# Altium schematic symbol library Connector-CardSocket.SchLib: 5 symbols
Pins are listed as number, name and electrical type; pins without a type are passive.

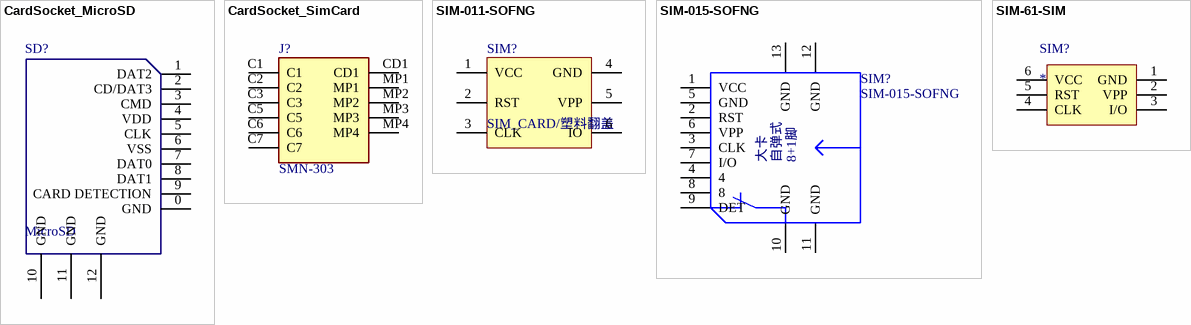
[diagram p0: symbols CardSocket_MicroSD to SIM-61-SIM]

## CardSocket_MicroSD
designator SD?, comment MicroSD
佐田¦(自弹)TF卡座 micro sd卡座; ComponentLink1Description: taobao.com; ComponentLink1URL: https://detail.tmall.com/item.htm?id=44131369945&spm=a1z09.2.0.0.73b72e8dl9KedD&_u=am2gus40e9e
footprint Micro SD
footprint TF  SD
pins: 0 GND, 1 DAT2, 2 CD/DAT3, 3 CMD, 4 VDD, 5 CLK, 6 VSS, 7 DAT0, 8 DAT1, 9 CARD DETECTION, 10 GND, 11 GND, 12 GND

## CardSocket_SimCard
designator J?, comment SMN-303
自弹式NANO SIM卡座 XUNPU(讯普); Datasheet Link: https://datasheet.lcsc.com/szlcsc/XUNPU-SMN-303_C266888.pdf; Height: 1.47mm; Manufacturer_Name: XUNPU; Manufacturer_Part_Number: SMN-303
footprint SMN303 (Nano SIM 自弹)
pins: C1, C2, C3, C5, C6, C7, CD1, MP1, MP2, MP3, MP4

## SIM-011-SOFNG
designator SIM?, comment SIM_CARD/塑料翻盖
footprint SIM-011-SOFNG
pins: 1 VCC, 2 RST, 3 CLK, 4 GND, 5 VPP, 6 IO
2 alternate drawings of the same symbol

## SIM-015-SOFNG
designator SIM?
footprint SIM-015-SOFNG
pins: 1 VCC, 2 RST, 3 CLK, 4, 5 GND, 6 VPP, 7 I/O, 8, 9 DET, 10 GND, 11 GND, 12 GND, 13 GND
text: 大卡; 自弹式; 8+1脚

## SIM-61-SIM
designator SIM?
footprint SIM-61-SIM卡座
pins: 1 GND, 2 VPP, 3 I/O, 4 CLK, 5 RST, 6 VCC